# Altium footprint library CON2.54x2.PcbLib: 1 footprints
Each footprint in its own frame and in the unit in brackets; x right, y up, seen from the top. Pads: shape width x height; smd on the part's side, far side on the other; paste and mask are expansions set on the pad; w line width, h text height; cw(c..) or ccw(c..) is an arc to the next point about the centre after c.
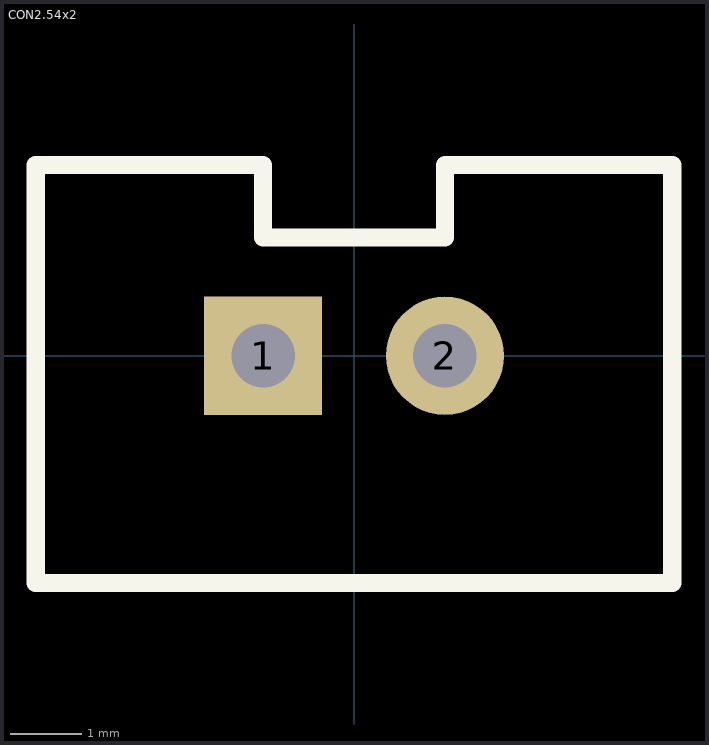
[diagram p0: the footprint, top view; thin cyan lines are the x and y axes]

## CON2.54x2 [mil] "连接器"
pads (2):
  rect 65x65 hole 35: 1(-50,0)
  round 65 hole 35: 2(50,0)
Top Overlay:
  lines w10: -175,-125 -175,105 -50,105 -50,65 50,65 50,105 175,105 175,-125 -175,-125